# EAGLE library part HI_POWER_M08 (library SSI)
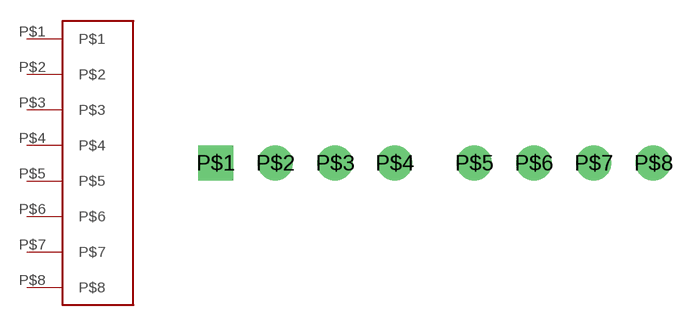
[diagram p7: symbol with the pads of HI_POWER_M08; footprint HI_POWER_M08]

Designator prefix -

## HI_POWER_M08  [HI_POWER_M08]
P$1  P$1
P$2  P$2
P$3  P$3
P$4  P$4
P$5  P$5
P$6  P$6
P$7  P$7
P$8  P$8

## Footprint HI_POWER_M08 (pad centres in mm)
drill 1.5 square: P$1 0,0
drill 1.5: P$2 3.81,0; P$3 7.62,0; P$4 11.43,0; P$5 16.51,0; P$6 20.32,0; P$7 24.13,0; P$8 27.94,0